# Altium footprint library SamacSys.PcbLib: 15 footprints
Each footprint in its own frame and in the unit in brackets; x right, y up, seen from the top. Pads: shape width x height; smd on the part's side, far side on the other; paste and mask are expansions set on the pad; w line width, h text height; cw(c..) or ccw(c..) is an arc to the next point about the centre after c.
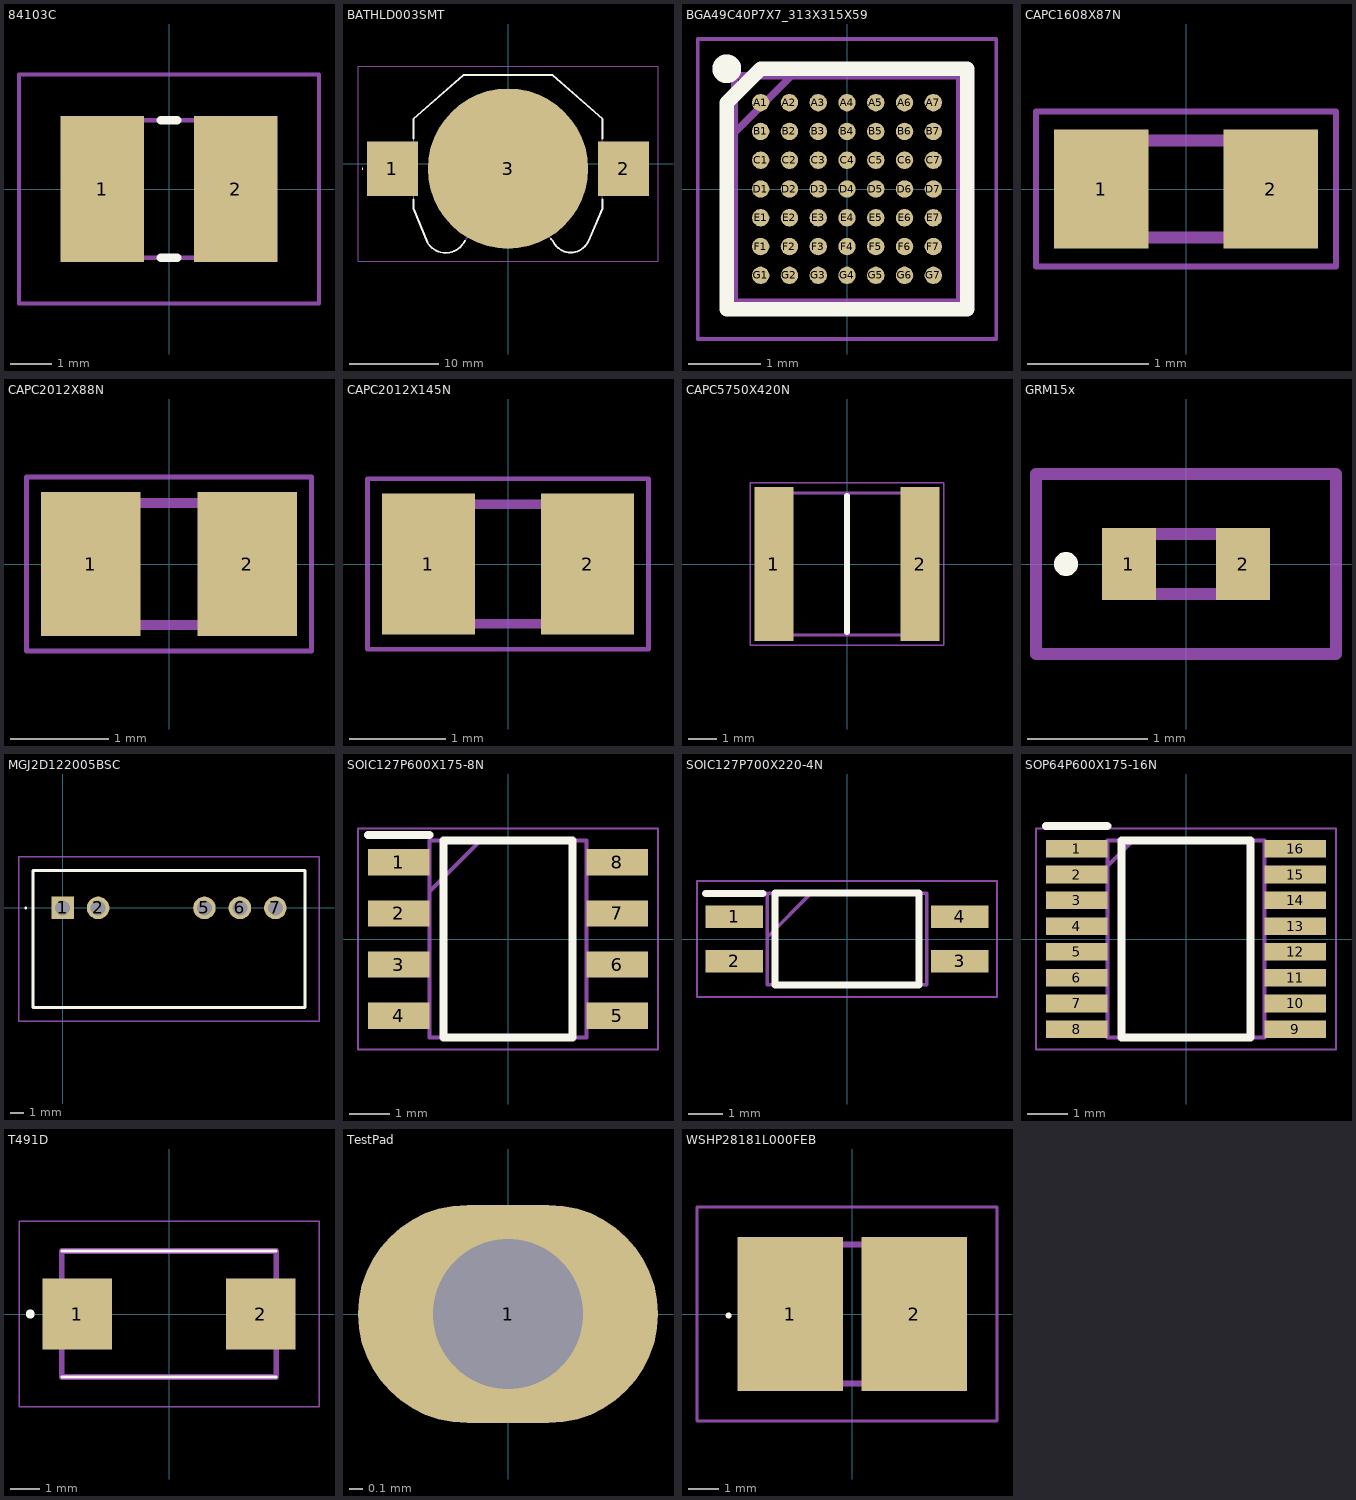
[diagram p0: the footprints below, top view; thin cyan lines are the x and y axes]

## 84103C [mm]
pads (2):
  rect 2x3.5 smd: 1(-1.6,0) 2(1.6,0)
Top Overlay:
  lines w0.2: -0.2,-1.65 0.2,-1.65 ; -0.2,1.65 0.2,1.65
Mechanical 13:
  lines w0.1: -2.25,-1.65 -2.25,1.65 2.25,1.65 2.25,-1.65 -2.25,-1.65
Mechanical 15:
  lines w0.1: -3.6,-2.75 -3.6,2.75 3.6,2.75 3.6,-2.75 -3.6,-2.75
3D body "84103C.stp": height 2.63, standoff 0, extent -2.25,-1.524 2.25,1.676

## BATHLD003SMT [mm]
pads (3):
  rect 5.7x6.1 smd: 1(-12.9,-0.55) 2(12.9,-0.55)
  round 17.9 smd: 3(0,-0.55)
Top Overlay:
  lines w0.1: -16.3,-0.55 ccw(c-16.25,-0.55) -16.2,-0.55 ccw(c-16.25,-0.55) -16.3,-0.55
  lines w0.2: -10.55,-4 -10.55,-5 -9,-8.8 ; -10.55,2.8 -10.55,5 -5,9.9 5,9.9 10.55,5 10.55,2.8 ; -9,-8.799 ccw(c-6.969,-7.588) -5.001,-8.9 -4.8,-8.6 ; 4.8,-8.4 5,-8.6 ; 5,-8.6 ccw(c7,-7.739) 8.999,-8.6 ; 9,-8.6 10.55,-5 10.55,-4
Mechanical 13:
  lines w0.1: -9,-8.8 -10.55,-5 -10.55,5 -5,9.9 0,9.9 5,9.9 10.55,5 10.55,-5 9,-8.6 ; -8.999,-8.801 ccw(c-6.966,-7.495) -4.998,-8.899 ; -5,-8.9 -4,-7.5 ; -4.005,-7.506 cw(c-0.001,-11.137) 3.998,-7.499 ; 4,-7.5 5,-8.6 ; 5,-8.6 ccw(c7,-7.739) 8.999,-8.6
Mechanical 15:
  lines w0.1: -16.75,-10.916 -16.75,10.9 16.75,10.9 16.75,-10.916 -16.75,-10.916
3D body "BAT-HLD-003-SMT.stp": height 4, standoff 0.1, extent -15.32,-9.92 15.18,9.88

## BGA49C40P7X7_313X315X59 [mm]
pads (49):
  round 0.242 smd: A1(-1.2,1.2) A2(-0.8,1.2) A3(-0.4,1.2) A4(0,1.2) A5(0.4,1.2) A6(0.8,1.2) A7(1.2,1.2) B1(-1.2,0.8) B2(-0.8,0.8) B3(-0.4,0.8) B4(0,0.8) B5(0.4,0.8) B6(0.8,0.8) B7(1.2,0.8) C1(-1.2,0.4) C2(-0.8,0.4) C3(-0.4,0.4) C4(0,0.4) C5(0.4,0.4) C6(0.8,0.4) C7(1.2,0.4) D1(-1.2,0) D2(-0.8,0) D3(-0.4,0) D4(0,0) D5(0.4,0) D6(0.8,0) D7(1.2,0) E1(-1.2,-0.4) E2(-0.8,-0.4) E3(-0.4,-0.4) E4(0,-0.4) E5(0.4,-0.4) E6(0.8,-0.4) E7(1.2,-0.4) F1(-1.2,-0.8) F2(-0.8,-0.8) F3(-0.4,-0.8) F4(0,-0.8) F5(0.4,-0.8) F6(0.8,-0.8) F7(1.2,-0.8) G1(-1.2,-1.2) G2(-0.8,-1.2) G3(-0.4,-1.2) G4(0,-1.2) G5(0.4,-1.2) G6(0.8,-1.2) G7(1.2,-1.2)
Top Overlay:
  circle w0.2: c-1.671,1.671 r0.1
  lines w0.2: -1.671,-1.671 -1.671,1.2 -1.2,1.671 1.671,1.671 1.671,-1.671 -1.671,-1.671
Mechanical 13:
  lines w0.1: -1.565,0.782 -0.773,1.574 ; -1.565,-1.575 -1.565,1.575 1.565,1.575 1.565,-1.575 -1.565,-1.575
Mechanical 15:
  lines w0.05: -2.075,-2.085 -2.075,2.085 2.075,2.085 2.075,-2.085 -2.075,-2.085
3D body "STM32G431CBY6TR.stp": height 0.59, standoff 0, extent -1.565,-1.575 1.565,1.575

## CAPC1608X87N [mm]
pads (2):
  rect 0.78x0.98 smd: 1(-0.7,0) 2(0.7,0)
Mechanical 13:
  lines w0.1: -0.8,-0.4 -0.8,0.4 0.8,0.4 0.8,-0.4 -0.8,-0.4
Mechanical 15:
  lines w0.05: -1.24,-0.64 -1.24,0.64 1.24,0.64 1.24,-0.64 -1.24,-0.64
3D body "C0603C103J5RAC.stp": height 0.87, standoff 0, extent -0.87,-0.48 0.88,0.47

## CAPC2012X88N [mm]
pads (2):
  rect 1.02x1.47 smd: 1(-0.8,0) 2(0.8,0)
Mechanical 13:
  lines w0.1: -1,-0.625 -1,0.625 1,0.625 1,-0.625 -1,-0.625
Mechanical 15:
  lines w0.05: -1.46,-0.89 -1.46,0.89 1.46,0.89 1.46,-0.89 -1.46,-0.89
3D body "C0805C104M5RAC.stp": height 0.88, standoff 0, extent -1.1,-0.73 1.1,0.72

## CAPC2012X145N [mm]
pads (2):
  rect 0.97x1.47 smd: 1(-0.83,0) 2(0.83,0)
Mechanical 13:
  lines w0.1: -1,-0.625 -1,0.625 1,0.625 1,-0.625 -1,-0.625
Mechanical 15:
  lines w0.05: -1.465,-0.89 -1.465,0.89 1.465,0.89 1.465,-0.89 -1.465,-0.89
3D body "GRM21BC71E475KE11L.stp": height 1.45, standoff 0, extent -1,-0.625 1,0.625

## CAPC5750X420N [mm]
pads (2):
  rect 1.37x5.41 smd: 1(-2.57,0) 2(2.57,0)
Top Overlay:
  lines w0.2: 0,-2.4 0,2.4
Mechanical 13:
  lines w0.1: -2.85,-2.5 -2.85,2.5 2.85,2.5 2.85,-2.5 -2.85,-2.5
Mechanical 15:
  lines w0.05: -3.405,-2.86 -3.405,2.86 3.405,2.86 3.405,-2.86 -3.405,-2.86
3D body "2220Y0630105KXT.stp": height 4.2, standoff 0, extent -2.85,-2.5 2.85,2.5

## GRM15x [mm]
pads (2):
  rect 0.45x0.6 smd: 1(-0.475,0) 2(0.475,0)
Top Overlay:
  lines w0.1: -1,-0.05 ccw(c-1,0) -1,0.05 ccw(c-1,0) -1,-0.05
Mechanical 13:
  lines w0.1: -0.5,-0.25 -0.5,0.25 0.5,0.25 0.5,-0.25 -0.5,-0.25
Mechanical 15:
  lines w0.1: -1.25,-0.75 -1.25,0.75 1.25,0.75 1.25,-0.75 -1.25,-0.75
3D body "GRM155R61H105KE05J.stp": height 0.5, standoff 0, extent -0.5,-0.28 0.5,0.27

## MGJ2D122005BSC [mm]
pads (5):
  rect 1.612x1.612 hole 1.075: 1(0,0)
  round 1.612 hole 1.075: 2(2.54,0) 5(10.16,0) 6(12.7,0) 7(15.24,0)
Top Overlay:
  lines w0.1: -2.7,0 ccw(c-2.65,0) -2.6,0 ccw(c-2.65,0) -2.7,0
  lines w0.2: -2.13,-7.13 -2.13,2.67 17.37,2.67 17.37,-7.13 -2.13,-7.13
Mechanical 13:
  lines w0.1: -2.13,-7.13 -2.13,2.67 17.37,2.67 17.37,-7.13 -2.13,-7.13
Mechanical 15:
  lines w0.1: -3.13,-8.13 -3.13,3.67 18.37,3.67 18.37,-8.13 -3.13,-8.13
3D body "MGJ2D122005BSC.stp": height 12.85, standoff -5, extent -2.13,-7.13 17.37,2.67

## SOIC127P600X175-8N [mm]
pads (8):
  rect 1.525x0.65 smd: 1(-2.712,1.905) 2(-2.712,0.635) 3(-2.712,-0.635) 4(-2.712,-1.905) 5(2.712,-1.905) 6(2.712,-0.635) 7(2.712,0.635) 8(2.712,1.905)
Top Overlay:
  lines w0.2: -3.475,2.58 -1.95,2.58 ; -1.6,-2.45 -1.6,2.45 1.6,2.45 1.6,-2.45 -1.6,-2.45
Mechanical 13:
  lines w0.1: -1.95,1.18 -0.68,2.45 ; -1.95,-2.45 -1.95,2.45 1.95,2.45 1.95,-2.45 -1.95,-2.45
Mechanical 15:
  lines w0.05: -3.725,-2.75 -3.725,2.75 3.725,2.75 3.725,-2.75 -3.725,-2.75
3D body "NE555DR.stp": height 1.75, standoff 0, extent -3,-2.45 3,2.45

## SOIC127P700X220-4N [mm]
pads (4):
  rect 1.65x0.65 smd: 1(-3.25,0.635) 2(-3.25,-0.635) 3(3.25,-0.635) 4(3.25,0.635)
Top Overlay:
  lines w0.2: -4.075,1.31 -2.425,1.31 ; -2.075,-1.325 -2.075,1.325 2.075,1.325 2.075,-1.325 -2.075,-1.325
Mechanical 13:
  lines w0.1: -2.3,0.055 -1.03,1.325 ; -2.3,-1.325 -2.3,1.325 2.3,1.325 2.3,-1.325 -2.3,-1.325
Mechanical 15:
  lines w0.05: -4.325,-1.675 -4.325,1.675 4.325,1.675 4.325,-1.675 -4.325,-1.675
3D body "TLP291_Y,SE_T.stp": height 2.2, standoff 0, extent -3.5,-1.325 3.5,1.325

## SOP64P600X175-16N [mm]
pads (16):
  rect 1.52x0.44 smd: 1(-2.715,2.24) 2(-2.715,1.6) 3(-2.715,0.96) 4(-2.715,0.32) 5(-2.715,-0.32) 6(-2.715,-0.96) 7(-2.715,-1.6) 8(-2.715,-2.24) 9(2.715,-2.24) 10(2.715,-1.6) 11(2.715,-0.96) 12(2.715,-0.32) 13(2.715,0.32) 14(2.715,0.96) 15(2.715,1.6) 16(2.715,2.24)
Top Overlay:
  lines w0.2: -3.475,2.81 -1.955,2.81 ; -1.605,-2.45 -1.605,2.45 1.605,2.45 1.605,-2.45 -1.605,-2.45
Mechanical 13:
  lines w0.1: -1.955,1.81 -1.315,2.45 ; -1.955,-2.45 -1.955,2.45 1.955,2.45 1.955,-2.45 -1.955,-2.45
Mechanical 15:
  lines w0.05: -3.725,-2.75 -3.725,2.75 3.725,2.75 3.725,-2.75 -3.725,-2.75
3D body "ADUM1440ARQZ.stp": height 1.75, standoff 0, extent -2.997,-2.45 2.997,2.45

## T491D [mm]
pads (2):
  rect 2.37x2.43 smd: 1(-3.12,0) 2(3.12,0)
Top Overlay:
  circle w0.2: c-4.72,0 r0.05
  lines w0.1: -3.65,-2.15 3.65,-2.15 ; -3.65,2.15 3.65,2.15
Mechanical 13:
  lines w0.2: -3.65,-2.15 -3.65,2.15 3.65,2.15 3.65,-2.15 -3.65,-2.15
Mechanical 15:
  lines w0.05: -5.105,-3.15 -5.105,3.15 5.105,3.15 5.105,-3.15 -5.105,-3.15
3D body "T491D106K050AT.stp": height 3.11, standoff 0, extent -3.8,-2.3 3.8,2.3

## TestPad [mm]
pads (1):
  oval 2.2x1.6 hole 1.1: 1(0,0)

## WSHP28181L000FEB [mm]
pads (2):
  rect 3.5x5.1 smd: 1(-2.055,0) 2(2.055,0)
Top Overlay:
  lines w0.1: -4.1,-0.1 cw(c-4.1,-0.05) -4.1,0 cw(c-4.1,-0.05) -4.1,-0.1
Mechanical 13:
  lines w0.2: -3.55,-2.3 -3.55,2.3 3.55,2.3 3.55,-2.3 -3.55,-2.3
Mechanical 15:
  lines w0.1: -5.15,-3.55 -5.15,3.55 4.805,3.55 4.805,-3.55 -5.15,-3.55
3D body "WSHP2818R0100FEA.stp": height 1.5, standoff 0, extent -3.718,-2.3 3.378,2.3